# Altium footprint library DFLS240.PcbLib: 1 footprints
Each footprint in its own frame and in the unit in brackets; x right, y up, seen from the top. Pads: shape width x height; smd on the part's side, far side on the other; paste and mask are expansions set on the pad; w line width, h text height; cw(c..) or ccw(c..) is an arc to the next point about the centre after c.
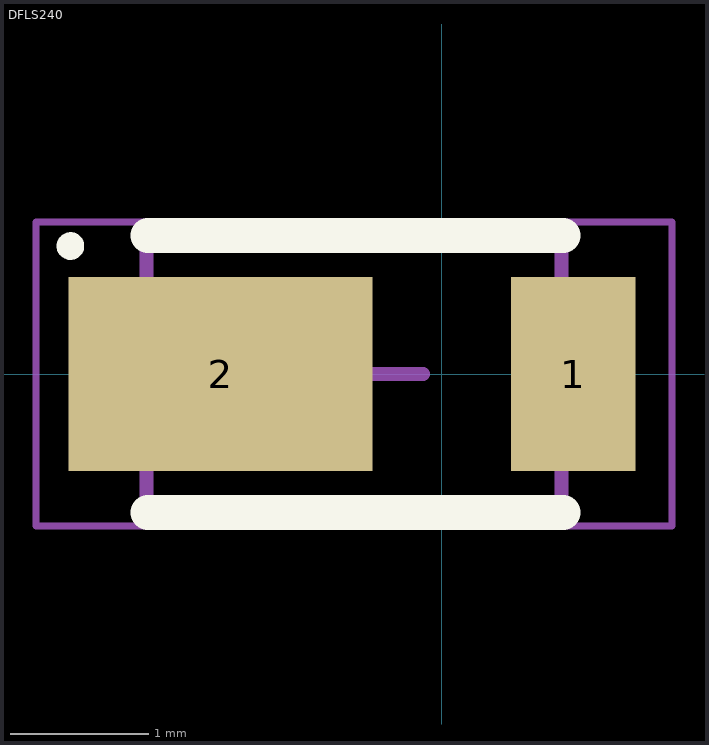
[diagram p0: the footprint, top view; thin cyan lines are the x and y axes]

## DFLS240 [mm]
pads (2):
  rect 0.9x1.4 smd: 1(0.95,0)
  rect 2.2x1.4 smd: 2(-1.6,0)
Top Overlay:
  circle w0.1: c-2.685,0.925 r0.05
  lines w0.254: -2.123,-1 0.877,-1 ; -2.123,1 0.877,1
Mechanical 13:
  lines w0.1: -2.135,-0.965 0.865,-0.965 0.865,0.965 -2.135,0.965 -2.135,-0.965
Mechanical 15:
  lines w0.05: -2.935,-1.1 1.665,-1.1 1.665,1.1 -2.935,1.1 -2.935,-1.1
  lines w0.1: -1.135,0 -0.135,0 ; -0.635,-0.5 -0.635,0.5
3D body: height 0.98, standoff 0, extent -2.135,-0.965 0.865,0.965